# Altium schematic symbol library TRF.SchLib: 1 symbol
Pins are listed as number, name and electrical type; pins without a type are passive.

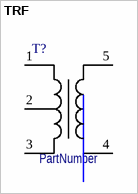
[diagram p0: symbol TRF]

## TRF
designator T?  (value not drawn)
Universal transformator; PartNumber: PartNumber
pins: 1 TD+, 2 TCT, 3 TD-, 4 TX-, 5 TX+